# Altium schematic symbol library LTM8067.SchLib: 1 symbol
Pins are listed as number, name and electrical type; pins without a type are passive.

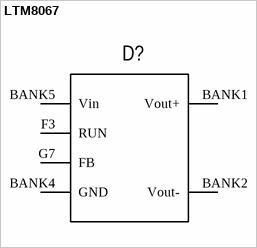
[diagram p0: symbol LTM8067]

## LTM8067
designator D?  (value not drawn)
pins: BANK1 Vout+, BANK2 Vout-, BANK4 GND, BANK5 Vin, F3 RUN, G7 FB